# EAGLE library part LM46002 (library texas-instruments)
SIMPLE SWITCHER® 3.5 V to 60 V 2 A Synchronous Step-Down Voltage Converter The LM46002 SIMPLE SWITCHER® regulator is an easy to use synchronous step-down DC-DC converter capable of driving up to 2 A of load current from an input voltage ranging from 3.5 V to 60 V. The LM46002 provides exceptional efficiency, output accuracy and drop-out voltage in a very small solution size. An extended family is available in various load current options and 36 V maximum input voltage in pin-to-pin compatible packages, including LM46001, LM46000, LM43603, LM43602, LM43601 and LM43600. Peak current mode control is employed to achieve simple control loop compensation and cycle-by-cycle current limiting. Optional features such as programmable switching frequency, synchronization, power-good flag, precision enable, internal soft-start, extendable soft-start, and tracking provide a flexible and easy to use platform for a wide range of applications. Discontinuous conduction and automatic frequency reduction at light loads improve light load efficiency. The family requires few external components. Pin arrangement allows simple, optimum PCB layout. Protection features include thermal shutdown, VCC under-voltage lockout, cycle-by-cycle current limit, and output short circuit protection. The LM46002 device is available in the HTSSOP / PWP 16 leaded package (5.1 mm x 6.6 mm x 1.2 mm) with 0.65 mm lead pitch. • 27 µA Quiescent Current in Regulation • High Efficiency at Light Load (DCM and PFM) • Meets EN55022/CISPR 22 EMI standards • Integrated Synchronous Rectification • Adjustable Frequency Range: 200 kHz to 2.2 MHz (500 kHz default) • Frequency Synchronization to External Clock • Internal Compensation • Stable with Almost Any Combination of Ceramic, Polymer, Tantalum, and Aluminum Capacitors • Power-Good Flag • Soft-Start into Pre-Biased Load • Internal Soft-Start: 4.1 ms • Extendable Soft-Start Time by External Capacitor • Output Voltage Tracking Capability • Precision Enable to Program System UVLO • Output Short Circuit Protection with Hiccup Mode • Over Temperature Thermal Shutdown Protection
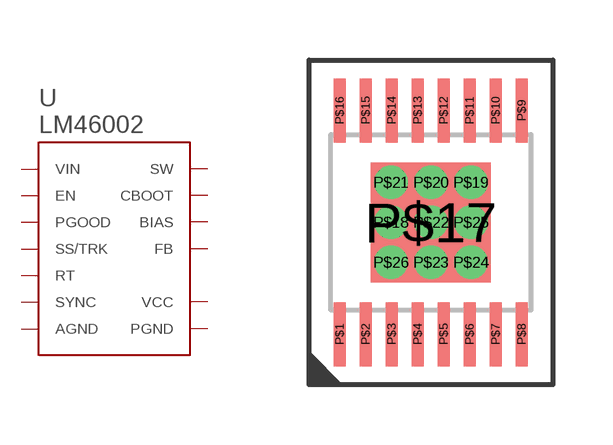
[diagram p11: symbol with the pads of R-PDSO-G16; footprint R-PDSO-G16]

Designator prefix U

## LM46002  [R-PDSO-G16]
P$1  SW
P$2  SW
P$3  CBOOT
P$4  VCC
P$5  BIAS
P$6  SYNC
P$7  RT
P$8  PGOOD  out
P$9  FB
P$10  AGND  pwr
P$11  SS/TRK
P$12  EN  in
P$13  VIN  pwr
P$14  VIN  pwr
P$15  PGND  pwr
P$16  PGND  pwr
P$17  PGND  pwr
P$18  PGND  pwr
P$19  PGND  pwr
P$20  PGND  pwr
P$21  PGND  pwr
P$22  PGND  pwr
P$23  PGND  pwr
P$24  PGND  pwr
P$25  PGND  pwr
P$26  PGND  pwr

## Footprint R-PDSO-G16 (pad centres in mm)
smd 0.3 x 1.6: P$1 -2.275,-2.8; P$2 -1.625,-2.8; P$3 -0.975,-2.8; P$4 -0.325,-2.8; P$5 0.325,-2.8; P$6 0.975,-2.8; P$7 1.625,-2.8; P$8 2.275,-2.8; P$9 2.275,2.8; P$10 1.625,2.8; P$11 0.975,2.8; P$12 0.325,2.8; P$13 -0.325,2.8; P$14 -0.975,2.8; P$15 -1.625,2.8; P$16 -2.275,2.8
smd 3 x 3: P$17 0,0
drill 0.33 pad 0.686: P$18 -1,0; P$19 1,1; P$20 0,1; P$21 -1,1; P$22 0,0; P$23 0,-1; P$24 1,-1; P$25 1,0; P$26 -1,-1